# EAGLE library part SP3072EE (library serial_interfaces)
IC TXRX RS485/RS422 ESD 8NSOIC
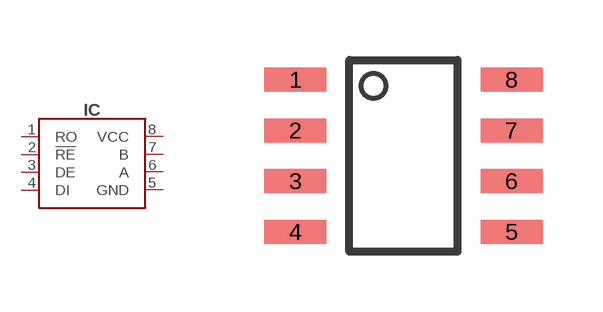
[diagram p9: symbol with the pads of SOIC8-3.9; footprint SOIC8-3.9]

Designator prefix IC

## SP3072EE-SOIC8 (DIGIKEY#: 1016-1784-1-ND; MANF: Exar Corporation; MANF#: SP3072EEN-L/TR)  [SOIC8-3.9]
1  RO  out
2  !RE  in
3  DE  in
4  DI  in
5  GND  sup
6  A
7  B
8  VCC  sup

## Footprint SOIC8-3.9 (pad centres in mm)
https://www.ti.com/lit/ds/snvsaq5a/snvsaq5a.pdf?ts=1602424164509
smd 1.55 x 0.6: 1 -2.7,1.905; 2 -2.7,0.635; 3 -2.7,-0.635; 4 -2.7,-1.905; 5 2.7,-1.905; 6 2.7,-0.635; 7 2.7,0.635; 8 2.7,1.905